# EAGLE library part CARD (library FSAE Electric)
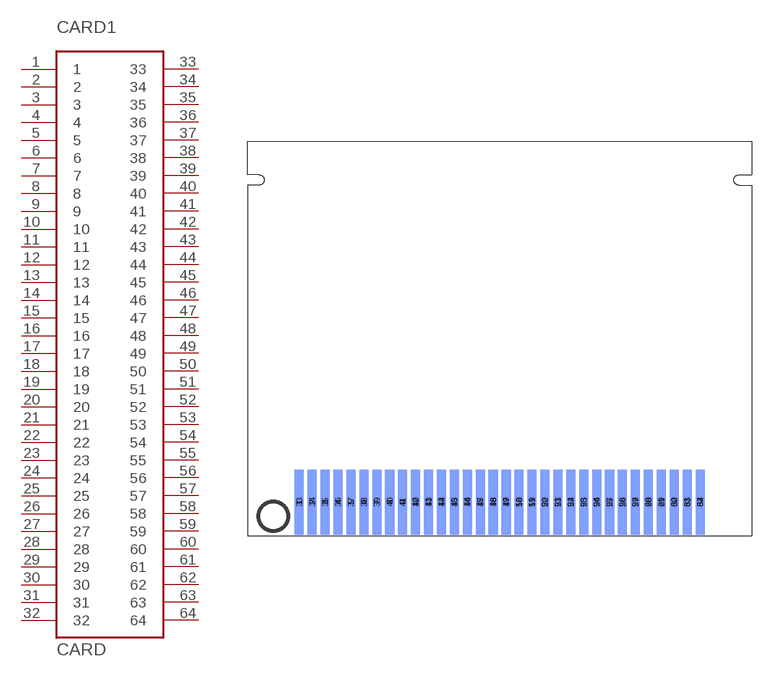
[diagram p34: symbol with the pads of CARD-64; footprint CARD-64]

Designator prefix CARD1

## CARD  [CARD-64]
1  1
2  2
3  3
4  4
5  5
6  6
7  7
8  8
9  9
10  10
11  11
12  12
13  13
14  14
15  15
16  16
17  17
18  18
19  19
20  20
21  21
22  22
23  23
24  24
25  25
26  26
27  27
28  28
29  29
30  30
31  31
32  32
33  33
34  34
35  35
36  36
37  37
38  38
39  39
40  40
41  41
42  42
43  43
44  44
45  45
46  46
47  47
48  48
49  49
50  50
51  51
52  52
53  53
54  54
55  55
56  56
57  57
58  58
59  59
60  60
61  61
62  62
63  63
64  64

## Footprint CARD-64 (pad centres in mm)
smd 1.778 x 12.7: 1 10.16,6.604; 2 12.7,6.604; 3 15.24,6.604; 4 17.78,6.604; 5 20.32,6.604; 6 22.86,6.604; 7 25.4,6.604; 8 27.94,6.604; 9 30.48,6.604; 10 33.02,6.604; 11 35.56,6.604; 12 38.1,6.604; 13 40.64,6.604; 14 43.18,6.604; 15 45.72,6.604; 16 48.26,6.604; 17 50.8,6.604; 18 53.34,6.604; 19 55.88,6.604; 20 58.42,6.604; 21 60.96,6.604; 22 63.5,6.604; 23 66.04,6.604; 24 68.58,6.604; 25 71.12,6.604; 26 73.66,6.604; 27 76.2,6.604; 28 78.74,6.604; 29 81.28,6.604; 30 83.82,6.604; 31 86.36,6.604; 32 88.9,6.604
smd 1.778 x 12.7 bottom: 33 10.16,6.604; 34 12.7,6.604; 35 15.24,6.604; 36 17.78,6.604; 37 20.32,6.604; 38 22.86,6.604; 39 25.4,6.604; 40 27.94,6.604; 41 30.48,6.604; 42 33.02,6.604; 43 35.56,6.604; 44 38.1,6.604; 45 40.64,6.604; 46 43.18,6.604; 47 45.72,6.604; 48 48.26,6.604; 49 50.8,6.604; 50 53.34,6.604; 51 55.88,6.604; 52 58.42,6.604; 53 60.96,6.604; 54 63.5,6.604; 55 66.04,6.604; 56 68.58,6.604; 57 71.12,6.604; 58 73.66,6.604; 59 76.2,6.604; 60 78.74,6.604; 61 81.28,6.604; 62 83.82,6.604; 63 86.36,6.604; 64 88.9,6.604